# Altium integrated library streetbot.IntLib: 48 symbols
Pins are listed as number, name and electrical type; pins without a type are passive.

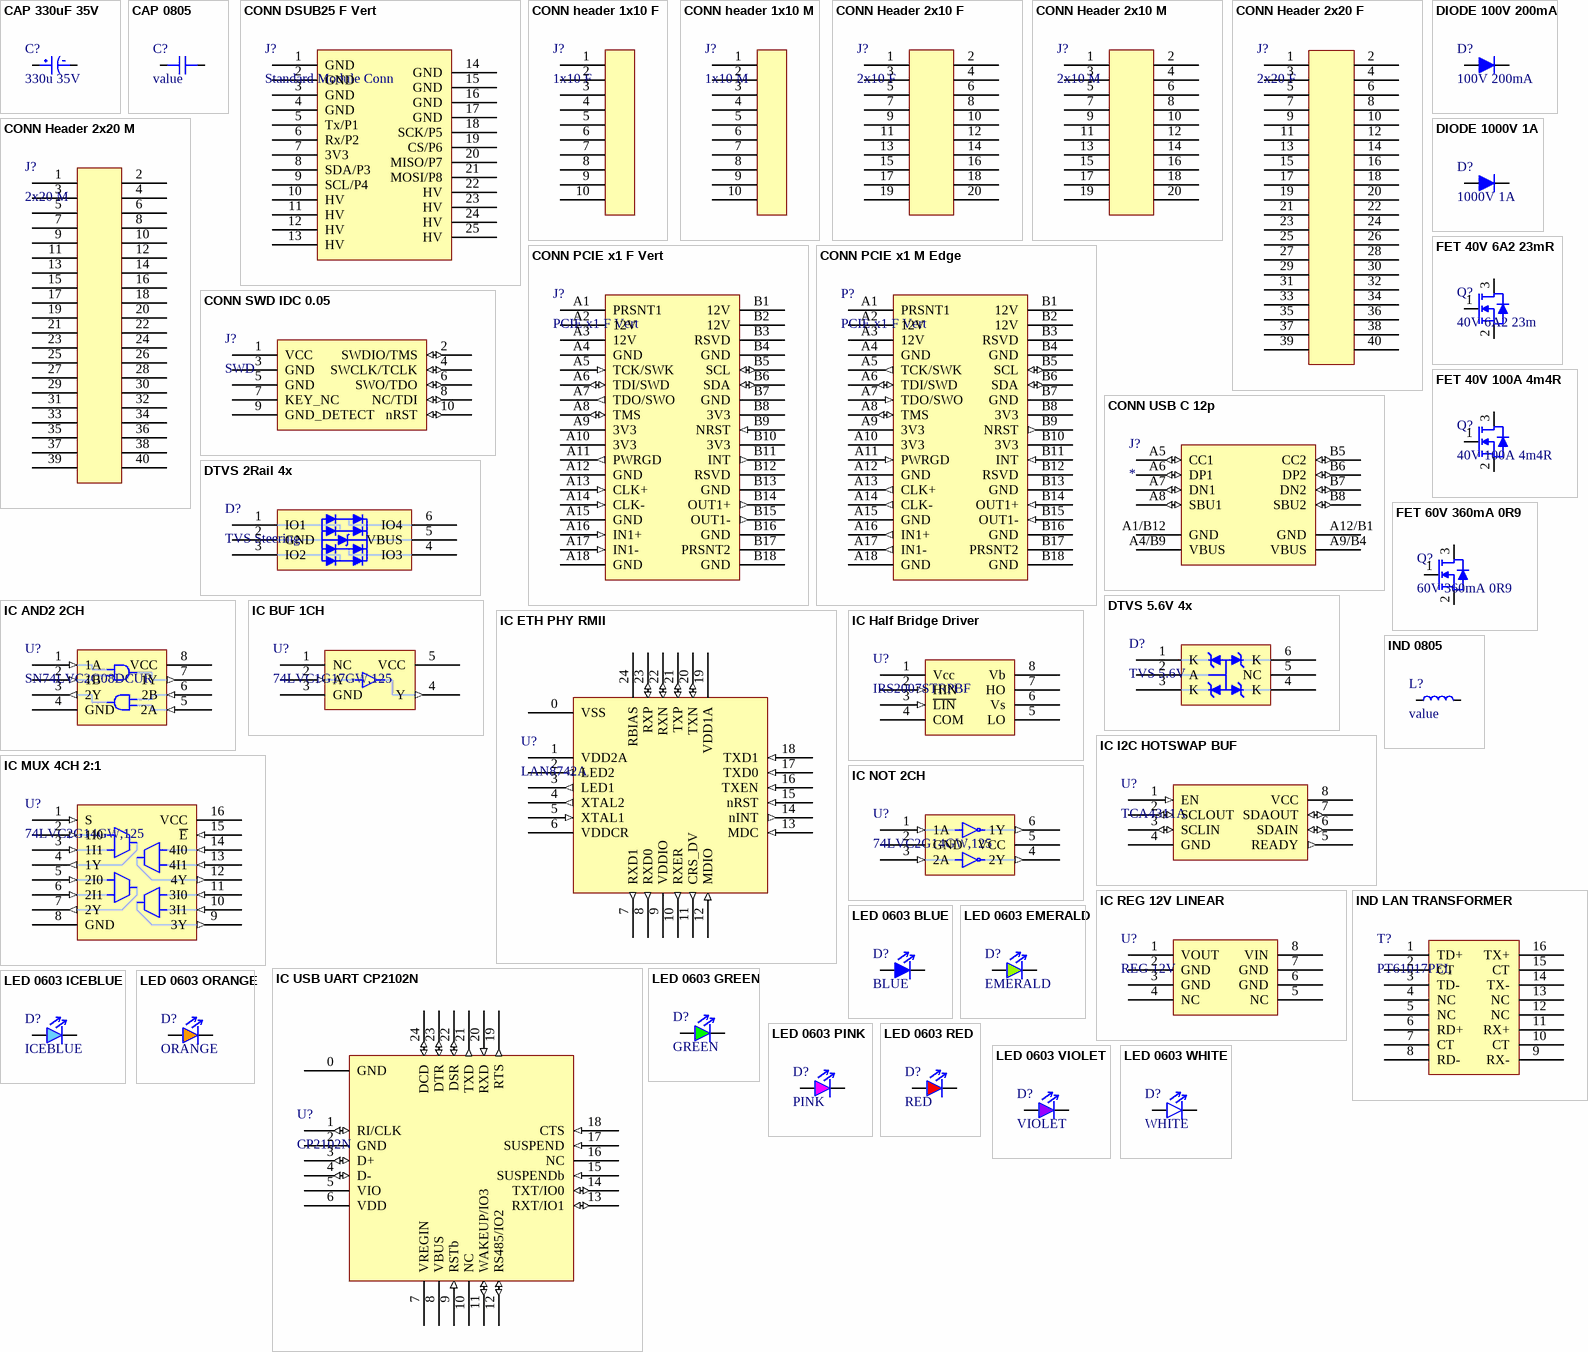
[diagram p0: symbols CAP 330uF 35V to LED 0603 WHITE]

## CAP 330uF 35V
designator C?, comment 330u 35V
PANASONIC ELECTRONIC COMPONENTS         EEE1VA331P             SMD Aluminium Electrolytic Capacitor, Radial Can - SMD, 330 F, 35 V, S Series; Manufacturer Part Number 1: EEE-1VA331P; Polarity: Polar; Life (Hours): 2000Hour; Leakage Current: 3uA; Capacitance: 330uF; Ripple Current (AC): 350mA; Tolerance: 20%; Supplier 1: Digi-Key; Supplier Part Number 1: PCE3959CT-ND; Manufacturer 1: Panasonic; RoHS: Yes; Category: Aluminum Electrolytic Capacitors; Stock 1: 45237; Pricing 1: 1=0.73000, 10=0.51400, 50=0.38880, 100=0.33860 (USD); Mount: Surface Mount,PCB; Case/Package: Radial; Contact Plating: Tin; Min Operating Temperature: -40°C; Max Operating Temperature: 85°C; Termination: SMD/SMT; Voltage: 35V; Voltage Rating: 35V; Packaging: Tape and Reel; Ripple Current: 350mA; Voltage Rating (DC): 35V; Package Quantity: 500; Diameter: 10mm; Length: 10.5mm; Height: 10.2mm; Height - Seated (Max): 0.402inch; Radiation Hardening: No; Lead Free: Lead Free; REACH SVHC: No SVHC; ComponentLink1URL: https://datasheet.ciiva.com/16389/aba0000ce2-16389541.pdf?src-supplier=Future+Electronics; ComponentLink1Description: https://datasheet.ciiva.com/16389/aba0000ce2-16389541.pdf?src-supplier=Future+Electronics; ComponentLink2URL: https://datasheet.ciiva.com/30235/11aba0000ce2-30235093.pdf?src-supplier=Onlinecomponents.com; ComponentLink2Description: https://datasheet.ciiva.com/30235/11aba0000ce2-30235093.pdf?src-supplier=Onlinecomponents.com; ComponentLink3URL: https://datasheet.ciiva.com/46374/aba0000ce2-46374421.pdf?src-supplier=Element14; ComponentLink3Description: https://datasheet.ciiva.com/46374/aba0000ce2-46374421.pdf?src-supplier=Element14; ComponentLink4URL: https://datasheet.ciiva.com/43470/aba0000ce2-43470694.pdf?src-supplier=Farnell; ComponentLink4Description: https://datasheet.ciiva.com/43470/aba0000ce2-43470694.pdf?src-supplier=Farnell; ComponentLink5URL: https://datasheet.ciiva.com/14593/70255710-14593929.pdf?src-supplier=Allied+Electronics; ComponentLink5Description: https://datasheet.ciiva.com/14593/70255710-14593929.pdf?src-supplier=Allied+Electronics; ComponentLink6URL: https://datasheet.ciiva.com/24025/aba0000ce2-40801-24025561.pdf?src-supplier=Mouser; ComponentLink6Description: https://datasheet.ciiva.com/24025/aba0000ce2-40801-24025561.pdf?src-supplier=Mouser; ComponentLink7URL: https://datasheet.ciiva.com/14599/70255710-14599770.pdf?src-supplier=Allied+Electronics; ComponentLink7Description: https://datasheet.ciiva.com/14599/70255710-14599770.pdf?src-supplier=Allied+Electronics; ComponentLink8URL: https://datasheet.ciiva.com/17534/aba0000ce2-17534540.pdf?src-supplier=Avnet+Europe; ComponentLink8Description: https://datasheet.ciiva.com/17534/aba0000ce2-17534540.pdf?src-supplier=Avnet+Europe; ComponentLink9URL: https://datasheet.ciiva.com/31414/aba0000ce2-31414702.pdf?src-supplier=Farnell; ComponentLink9Description: https://datasheet.ciiva.com/31414/aba0000ce2-31414702.pdf?src-supplier=Farnell
footprint CAP ALUM 10X10 (Aluminum Electrolytic Capacitor, Body 10.30x10.30x10.50mm, IPC Low Density)
pins: 1, 2

## CAP 0805
designator C?, comment value
CAP 0805
footprint CAP 0805 L (Chip Capacitor, 2-Leads, Body 2.00x1.25mm, IPC Low Density)
footprint CAP 0805 M (Chip Capacitor, 2-Leads, Body 2.00x1.25mm, IPC Medium Density)
footprint CAP 0805 S (Chip Capacitor, 2-Leads, Body 2.00x1.25mm, IPC High Density)
pins: 1, 2

## CONN DSUB25 F Vert
designator J?, comment Standard Module Conn
L77SDBH25SOL2RM5
footprint DSUB25 M RA
pins: 1 GND, 2 GND, 3 GND, 4 GND, 5 Tx/P1, 6 Rx/P2, 7 3V3, 8 SDA/P3, 9 SCL/P4, 10 HV, 11 HV, 12 HV, 13 HV, 14 GND, 15 GND, 16 GND, 17 GND, 18 SCK/P5, 19 CS/P6, 20 MISO/P7, 21 MOSI/P8, 22 HV, 23 HV, 24 HV, 25 HV

## CONN header 1x10 F
designator J?, comment 1x10 F
CONN header 1x10 F; Supplier 1: Digi-Key; Supplier Part Number 1: S7008-ND
footprint CONN HDR 1x10 F
pins: 1, 2, 3, 4, 5, 6, 7, 8, 9, 10

## CONN header 1x10 M
designator J?, comment 1x10 M
CONN header 1x10 M
footprint CONN HDR 1x10 M
pins: 1, 2, 3, 4, 5, 6, 7, 8, 9, 10

## CONN Header 2x10 F
designator J?, comment 2x10 F
SFH11-PBPC-D10-ST-BK; Supplier 1: Digi-Key; Supplier Part Number 1: S9197-ND
footprint CONN HDR 2x10 F BOT
footprint CONN HDR 2x10 F TOP
pins: 1, 2, 3, 4, 5, 6, 7, 8, 9, 10, 11, 12, 13, 14, 15, 16, 17, 18, 19, 20

## CONN Header 2x10 M
designator J?, comment 2x10 M
SBH11-PBPC-D10-ST-BK; Supplier 1: Digi-Key; Supplier Part Number 1: S9172-ND
footprint CONN HDR 2x10 M BOT
footprint CONN HDR 2x10 M TOP
pins: 1, 2, 3, 4, 5, 6, 7, 8, 9, 10, 11, 12, 13, 14, 15, 16, 17, 18, 19, 20

## CONN Header 2x20 F
designator J?, comment 2x20 F
CONN Header 2x20 F; Supplier 1: Digi-Key; Supplier Part Number 1: S9200-ND
footprint CONN HDR 2x20 F BOT
footprint CONN HDR 2x20 F TOP
pins: 1, 2, 3, 4, 5, 6, 7, 8, 9, 10, 11, 12, 13, 14, 15, 16, 17, 18, 19, 20, 21, 22, 23, 24, 25, 26, 27, 28, 29, 30, 31, 32, 33, 34, 35, 36, 37, 38, 39, 40

## CONN Header 2x20 M
designator J?, comment 2x20 M
CONN Header 2x20 M; Supplier 1: Digi-Key; Supplier Part Number 1: ED10529-ND
footprint CONN HDR 2x20 M BOT
footprint CONN HDR 2x20 M TOP
pins: 1, 2, 3, 4, 5, 6, 7, 8, 9, 10, 11, 12, 13, 14, 15, 16, 17, 18, 19, 20, 21, 22, 23, 24, 25, 26, 27, 28, 29, 30, 31, 32, 33, 34, 35, 36, 37, 38, 39, 40

## CONN PCIE x1 F Vert
designator J?, comment PCIE x1 F Vert
10018784-10210TLF; Supplier 1: Digi-Key; Supplier Part Number 1: 609-2029-ND
footprint CONN PCIE x1 F Vert
footprint CONN PCIE x1 F Vert w hook
pins: A1 PRSNT1, A2 12V (power), A3 12V (power), A4 GND (power), A5 TCK/SWK (in), A6 TDI/SWD (io), A7 TDO/SWO (out), A8 TMS (io), A9 3V3 (power), A10 3V3 (power), A11 PWRGD (out), A12 GND (power), A13 CLK+ (in), A14 CLK- (in), A15 GND (power), A16 IN1+ (in), A17 IN1- (in), A18 GND (power), B1 12V (power), B2 12V (power), B3 RSVD, B4 GND (power), B5 SCL (io), B6 SDA (io), B7 GND (power), B8 3V3 (power), B9 NRST (in), B10 3V3 (power), B11 INT (out), B12 RSVD, B13 GND (power), B14 OUT1+ (out), B15 OUT1- (out), B16 GND (power), B17 PRSNT2, B18 GND (power)

## CONN PCIE x1 M Edge
designator P?, comment PCIE x1 F Vert
10018784-10210TLF; Supplier 1: Digi-Key; Supplier Part Number 1: 609-2029-ND
pins: A1 PRSNT1, A2 12V (power), A3 12V (power), A4 GND (power), A5 TCK/SWK (out), A6 TDI/SWD (io), A7 TDO/SWO (in), A8 TMS (io), A9 3V3 (power), A10 3V3 (power), A11 PWRGD (in), A12 GND (power), A13 CLK+ (out), A14 CLK- (out), A15 GND (power), A16 IN1+ (out), A17 IN1- (out), A18 GND (power), B1 12V (power), B2 12V (power), B3 RSVD, B4 GND (power), B5 SCL (io), B6 SDA (io), B7 GND (power), B8 3V3 (power), B9 NRST (out), B10 3V3 (power), B11 INT (in), B12 RSVD, B13 GND (power), B14 OUT1+ (in), B15 OUT1- (in), B16 GND (power), B17 PRSNT2, B18 GND (power)

## CONN SWD IDC 0.05
designator J?, comment SWD
CONN SWD IDC 0.05; Supplier 1: Digi-Key; Supplier Part Number 1: 1175-1735-ND
footprint CONN IDC 10P P0.05
pins: 1 VCC (power), 2 SWDIO/TMS (io), 3 GND (power), 4 SWCLK/TCLK (io), 5 GND (power), 6 SWO/TDO (io), 7 KEY_NC, 8 NC/TDI (io), 9 GND_DETECT (power), 10 nRST (io)

## CONN USB C 12p
designator J?
USB - Type C Female 12 SMD USB Connectors RoHS; LCSC Part #: C167321
footprint CONN USB C 12P
pins: A1/B12 GND (power), A4/B9 VBUS (power), A5 CC1 (io), A6 DP1 (io), A7 DN1 (io), A8 SBU1 (io), A9/B4 VBUS (power), A12/B1 GND (power), B5 CC2 (io), B6 DP2 (io), B7 DN2 (io), B8 SBU2 (io)

## DIODE 100V 200mA
designator D?, comment 100V 200mA
BAS16GWJ
footprint SODFL250X100-2M (SODFL, 2-Leads, Body 1.25x2.50mm, IPC Low Density)
pins: 1, 2

## DIODE 1000V 1A
designator D?, comment 1000V 1A
S1MTR
footprint DIOM4426X30M (Molded Diode, 2-Leads, Body 4.37x2.62mm, IPC Low Density)
pins: 1, 2

## DTVS 2Rail 4x
designator D?, comment TVS Steering
CM1293A-04SO; Supplier 1: Digi-Key; Supplier Part Number 1: CM1293A-04SOOSCT-ND
footprint SC-74 (SOT23, 6-Leads, Body 3.00x2.75mm, Pitch 0.95mm, IPC Low Density)
pins: 1 IO1, 2 GND, 3 IO2, 4 IO3, 5 VBUS, 6 IO4

## DTVS 5.6V 4x
designator D?, comment TVS 5.6V
QZX363C5V6-7-F; Supplier 1: Digi-Key; Supplier Part Number 1: QZX363C5V6-7-FDICT-ND
footprint SOT363 (SOT23, 6-Leads, Body 2.00x2.10mm, Pitch 0.65mm, IPC Low Density)
pins: 1 K, 2 A, 3 K, 4 K, 5 NC, 6 K

## FET 40V 6A2 23mR
designator Q?, comment 40V 6A2 23m
PMN20ENAX
footprint SOT457_FET (SOT23, 6-Leads, Body 2.90x2.75mm, Pitch 0.95mm, IPC Low Density)
pins: 1 14, 2, 3

## FET 40V 100A 4m4R
designator Q?, comment 40V 100A 4m4R
BUK7Y4R4-40EX
footprint DPAK127P600X120-5M (LFPAK56; Power-SO8) (TO, 5-Pads, Body 5.15x5.86mm (max), IPC Low Density)
pins: 1 14, 2, 3

## FET 60V 360mA 0R9
designator Q?, comment 60V 360mA 0R9
PMN20ENAX; Supplier 1: Digi-Key; Supplier Part Number 1: 1727-1142-1-ND
footprint SOT23 (SOT23, 3-Leads, Body 2.90x2.30mm, Pitch 0.95mm, IPC Low Density)
pins: 1 14, 2, 3

## IC AND2 2CH
designator U?, comment SN74LVC2G08DCUR
footprint VSSOP-8 (TSSOP, 8-Leads, Body 2.00x2.30mm, Pitch 0.50mm, IPC Low Density)
pins: 1 1A (in), 2 1B (in), 3 2Y (out), 4 GND (power), 5 2A (in), 6 2B (in), 7 1Y (out), 8 VCC (power)

## IC BUF 1CH
designator U?, comment 74LVC1G17GW,125
footprint SOT753 (SOT23, 5-Leads, Body 2.90x2.75mm, Pitch 0.95mm, IPC Low Density)
pins: 1 NC, 2 A (in), 3 GND (power), 4 Y (out), 5 VCC (power)

## IC ETH PHY RMII
designator U?, comment LAN8742A
LAN8742A-CZ-TR / LAN8742AI-CZ-TR
footprint VQFN24 (PQFN, 24-Leads, Body 4.00x4.00mm, Pitch 0.50mm, Thermal Pad 2.50x2.50mm, IPC Medium Density)
pins: 0 VSS (power), 1 VDD2A (power), 2 LED2 (out), 3 LED1 (out), 4 XTAL2 (out), 5 XTAL1 (in), 6 VDDCR (power), 7 RXD1 (out), 8 RXD0 (out), 9 VDDIO (power), 10 RXER (out), 11 CRS_DV (out), 12 MDIO (in), 13 MDC (in), 14 nINT (out), 15 nRST (in), 16 TXEN (in), 17 TXD0 (in), 18 TXD1 (in), 19 VDD1A (power), 20 TXN (io), 21 TXP (io), 22 RXN (io), 23 RXP (io), 24 RBIAS

## IC Half Bridge Driver
designator U?, comment IRS2007STRPBF
footprint SOIC-8 (SOIC, 8-Leads, Body 4.90x3.90mm, Pitch 1.27mm, IPC Low Density)
pins: 1 Vcc (power), 2 HIN (in), 3 ~{LIN} (in), 4 COM (power), 5 LO, 6 Vs, 7 HO, 8 Vb

## IC I2C HOTSWAP BUF
designator U?, comment TCA4311A
Supplier 1: Digi-Key; Supplier Part Number 1: 296-28328-1-ND
footprint SSOP-8 (TSOP, 8-Leads, Body 3.00x3.00mm, Pitch 0.65mm, IPC Low Density)
pins: 1 EN (in), 2 SCLOUT (io), 3 SCLIN (io), 4 GND (power), 5 READY (out), 6 SDAIN (io), 7 SDAOUT (io), 8 VCC (power)

## IC MUX 4CH 2:1
designator U?, comment 74LVC2G14GW,125
74LVC157APW; Supplier 1: Digi-Key; Supplier Part Number 1: 1727-4028-1-ND
footprint TSSOP-16 (TSOP, 16-Leads, Body 5.00x4.40mm, Pitch 0.65mm, IPC Low Density)
pins: 1 S (in), 2 1I0 (in), 3 1I1 (in), 4 1Y (out), 5 2I0 (in), 6 2I1 (in), 7 2Y (out), 8 GND (power), 9 3Y (out), 10 3I1 (in), 11 3I0 (in), 12 4Y (out), 13 4I1 (in), 14 4I0 (in), 15 ~{E} (in), 16 VCC (power)

## IC NOT 2CH
designator U?, comment 74LVC2G14GW,125
footprint SOT363 (SOT23, 6-Leads, Body 2.00x2.10mm, Pitch 0.65mm, IPC Low Density)
pins: 1 1A (in), 2 GND, 3 2A (in), 4 2Y (out), 5 VCC, 6 1Y (out)

## IC REG 12V LINEAR
designator U?, comment REG 12V
L78L12ABD-TR; Supplier 1: Digi-Key; Supplier Part Number 1: 497-7767-1-ND
footprint SOIC-8 (SOIC, 8-Leads, Body 4.90x3.90mm, Pitch 1.27mm, IPC Low Density)
pins: 1 VOUT (power), 2 GND (power), 3 GND (power), 4 NC, 5 NC, 6 GND (power), 7 GND (power), 8 VIN (power)

## IC USB UART CP2102N
designator U?, comment CP2102N
Supplier 1: Digi-Key; Supplier Part Number 1: 336-5888-1-ND
footprint VQFN24 (PQFN, 24-Leads, Body 4.00x4.00mm, Pitch 0.50mm, Thermal Pad 2.50x2.50mm, IPC Medium Density)
pins: 0 GND (power), 1 RI/CLK (io), 2 GND (power), 3 D+ (io), 4 D- (io), 5 VIO (power), 6 VDD (power), 7 VREGIN (power), 8 VBUS (power), 9 RSTb (in), 10 NC, 11 WAKEUP/IO3 (io), 12 RS485/IO2 (io), 13 RXT/IO1 (io), 14 TXT/IO0 (io), 15 SUSPENDb (in), 16 NC, 17 SUSPEND (in), 18 CTS (in), 19 RTS (out), 20 RXD (in), 21 TXD (out), 22 DSR (io), 23 DTR (io), 24 DCD (io)

## IND 0805
designator L?, comment value
IND 0805
footprint IND 0805 L (Chip Inductor, 2-Leads, Body 2.00x1.25mm, IPC Low Density)
pins: 1, 2

## IND LAN TRANSFORMER
designator T?, comment PT61017PEL
LAN 10/100 Base-Tx; Supplier 1: Digi-Key; Supplier Part Number 1: PT61017PELCT-ND
footprint LAN TRANSFORMER (SOP, 16-Leads, Body 12.80x6.90mm, Pitch 1.27mm, IPC Low Density)
pins: 1 TD+, 2 CT, 3 TD-, 4 NC, 5 NC, 6 RD+, 7 CT, 8 RD-, 9 RX-, 10 CT, 11 RX+, 12 NC, 13 NC, 14 TX-, 15 CT, 16 TX+

## LED 0603 BLUE
designator D?, comment BLUE
footprint LED 0603 BLUE
pins: 1, 2

## LED 0603 EMERALD
designator D?, comment EMERALD
footprint LED 0603 EMERALD
pins: 1, 2

## LED 0603 GREEN
designator D?, comment GREEN
footprint LED 0603 GREEN
pins: 1, 2

## LED 0603 ICEBLUE
designator D?, comment ICEBLUE
footprint LED 0603 ICEBLUE
pins: 1, 2

## LED 0603 ORANGE
designator D?, comment ORANGE
footprint LED 0603 ORANGE
pins: 1, 2

## LED 0603 PINK
designator D?, comment PINK
footprint LED 0603 PINK
pins: 1, 2

## LED 0603 RED
designator D?, comment RED
footprint LED 0603 RED
pins: 1, 2

## LED 0603 VIOLET
designator D?, comment VIOLET
footprint LED 0603 VIOLET
pins: 1, 2

## LED 0603 WHITE
designator D?, comment WHITE
footprint LED 0603 WHITE
pins: 1, 2

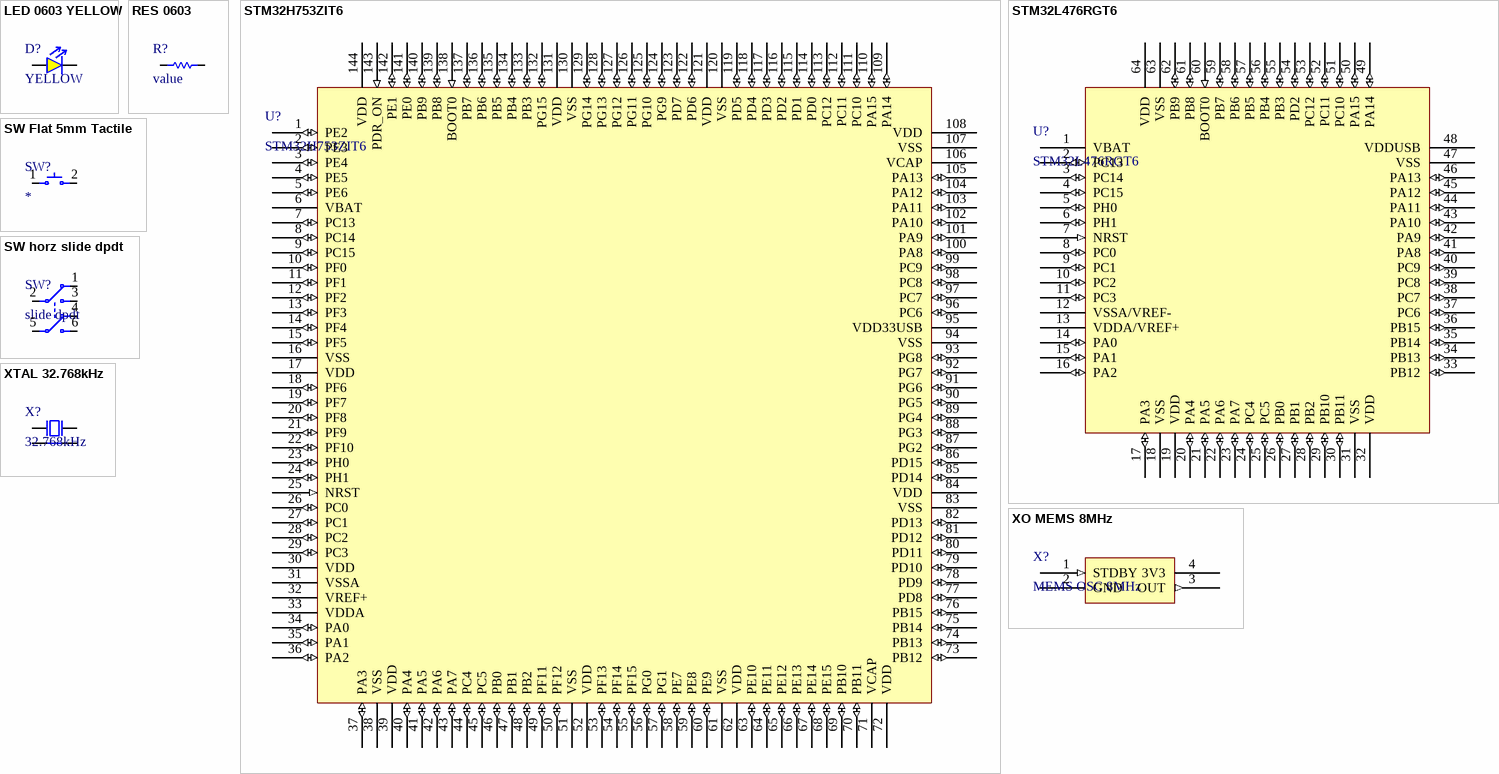
[diagram p1: symbols LED 0603 YELLOW to XTAL 32.768kHz]

## LED 0603 YELLOW
designator D?, comment YELLOW
footprint LED 0603 YELLOW
pins: 1, 2

## RES 0603
designator R?, comment value
RES 0603
footprint RES 0603 L (Chip Resistor, 2-Leads, Body 1.60x0.80mm, IPC Low Density)
footprint RES 0603 M (Chip Resistor, 2-Leads, Body 1.60x0.80mm, IPC Medium Density)
footprint RES 0603 S (Chip Resistor, 2-Leads, Body 1.60x0.80mm, IPC High Density)
pins: 1, 2

## STM32H753ZIT6
designator U?
footprint LQFP144 (TSQFP, 144-Leads, Body 20.00x20.00mm, Pitch 0.50mm, IPC Low Density)
pins: 1 PE2 (io), 2 PE3 (io), 3 PE4 (io), 4 PE5 (io), 5 PE6 (io), 6 VBAT (power), 7 PC13 (io), 8 PC14 (io), 9 PC15 (io), 10 PF0 (io), 11 PF1 (io), 12 PF2 (io), 13 PF3 (io), 14 PF4 (io), 15 PF5 (io), 16 VSS (power), 17 VDD (power), 18 PF6 (io), 19 PF7 (io), 20 PF8 (io), 21 PF9 (io), 22 PF10 (io), 23 PH0 (io), 24 PH1 (io), 25 NRST (in), 26 PC0 (io), 27 PC1 (io), 28 PC2 (io), 29 PC3 (io), 30 VDD (power), 31 VSSA (power), 32 VREF+, 33 VDDA (power), 34 PA0 (io), 35 PA1 (io), 36 PA2 (io), 37 PA3 (io), 38 VSS (power), 39 VDD (power), 40 PA4 (io), 41 PA5 (io), 42 PA6 (io), 43 PA7 (io), 44 PC4 (io), 45 PC5 (io), 46 PB0 (io), 47 PB1 (io), 48 PB2 (io), 49 PF11 (io), 50 PF12 (io), 51 VSS (power), 52 VDD (power), 53 PF13 (io), 54 PF14 (io), 55 PF15 (io), 56 PG0 (io), 57 PG1 (io), 58 PE7 (io), 59 PE8 (io), 60 PE9 (io), 61 VSS (power), 62 VDD (power), 63 PE10 (io), 64 PE11 (io), 65 PE12 (io), 66 PE13 (io), 67 PE14 (io), 68 PE15 (io), 69 PB10 (io), 70 PB11 (io), 71 VCAP, 72 VDD (power), 73 PB12 (io), 74 PB13 (io), 75 PB14 (io), 76 PB15 (io), 77 PD8 (io), 78 PD9 (io), 79 PD10 (io), 80 PD11 (io), 81 PD12 (io), 82 PD13 (io), 83 VSS (power), 84 VDD (power), 85 PD14 (io), 86 PD15 (io), 87 PG2 (io), 88 PG3 (io), 89 PG4 (io), 90 PG5 (io), 91 PG6 (io), 92 PG7 (io), 93 PG8 (io), 94 VSS (power), 95 VDD33USB (power), 96 PC6 (io), 97 PC7 (io), 98 PC8 (io), 99 PC9 (io), 100 PA8 (io), 101 PA9 (io), 102 PA10 (io), 103 PA11 (io), 104 PA12 (io), 105 PA13 (io), 106 VCAP, 107 VSS (power), 108 VDD (power), 109 PA14 (io), 110 PA15 (io), 111 PC10 (io), 112 PC11 (io), 113 PC12 (io), 114 PD0 (io), 115 PD1 (io), 116 PD2 (io), 117 PD3 (io), 118 PD4 (io), 119 PD5 (io), 120 VSS (power), 121 VDD (power), 122 PD6 (io), 123 PD7 (io), 124 PG9 (io), 125 PG10 (io), 126 PG11 (io), 127 PG12 (io), 128 PG13 (io), 129 PG14 (io), 130 VSS (power), 131 VDD (power), 132 PG15 (io), 133 PB3 (io), 134 PB4 (io), 135 PB5 (io), 136 PB6 (io), 137 PB7 (io), 138 BOOT0 (in), 139 PB8 (io), 140 PB9 (io), 141 PE0 (io), 142 PE1 (io), 143 PDR_ON (in), 144 VDD (power)

## STM32L476RGT6
designator U?
footprint LQFP64 (TSQFP, 64-Leads, Body 10.00x10.00mm, Pitch 0.50mm, IPC Low Density)
pins: 1 VBAT (power), 2 PC13 (io), 3 PC14 (io), 4 PC15 (io), 5 PH0 (io), 6 PH1 (io), 7 NRST (in), 8 PC0 (io), 9 PC1 (io), 10 PC2 (io), 11 PC3 (io), 12 VSSA/VREF- (power), 13 VDDA/VREF+ (power), 14 PA0 (io), 15 PA1 (io), 16 PA2 (io), 17 PA3 (io), 18 VSS (power), 19 VDD (power), 20 PA4 (io), 21 PA5 (io), 22 PA6 (io), 23 PA7 (io), 24 PC4 (io), 25 PC5 (io), 26 PB0 (io), 27 PB1 (io), 28 PB2 (io), 29 PB10 (io), 30 PB11 (io), 31 VSS (power), 32 VDD (power), 33 PB12 (io), 34 PB13 (io), 35 PB14 (io), 36 PB15 (io), 37 PC6 (io), 38 PC7 (io), 39 PC8 (io), 40 PC9 (io), 41 PA8 (io), 42 PA9 (io), 43 PA10 (io), 44 PA11 (io), 45 PA12 (io), 46 PA13 (io), 47 VSS (power), 48 VDDUSB (power), 49 PA14 (io), 50 PA15 (io), 51 PC10 (io), 52 PC11 (io), 53 PC12 (io), 54 PD2 (io), 55 PB3 (io), 56 PB4 (io), 57 PB5 (io), 58 PB6 (io), 59 PB7 (io), 60 BOOT0 (in), 61 PB8 (io), 62 PB9 (io), 63 VSS (power), 64 VDD (power)

## SW Flat 5mm Tactile
designator SW?
footprint SW 5MM TACTILE
pins: 1, 2

## SW horz slide dpdt
designator SW?, comment slide dpdt
JS202011JAQN; Supplier 1: Digi-Key; Supplier Part Number 1: CKN10722CT-ND
footprint SW SIDE SLIDE DPDT
pins: 1, 2, 3, 4, 5, 6

## XO MEMS 8MHz
designator X?, comment MEMS OSC 8MHz
DSC6011CI2A-008.0000
footprint XO 3.2x2.5
pins: 1 STDBY (in), 2 GND (power), 3 OUT (out), 4 3V3 (power)

## XTAL 32.768kHz
designator X?, comment 32.768kHz
RSM200S-32.768-12.5-10PPM-NPB
footprint XTAL 8.0x3.8
pins: 1, 2, 3, 4